# EAGLE library part ADC0831-N (library ADC)
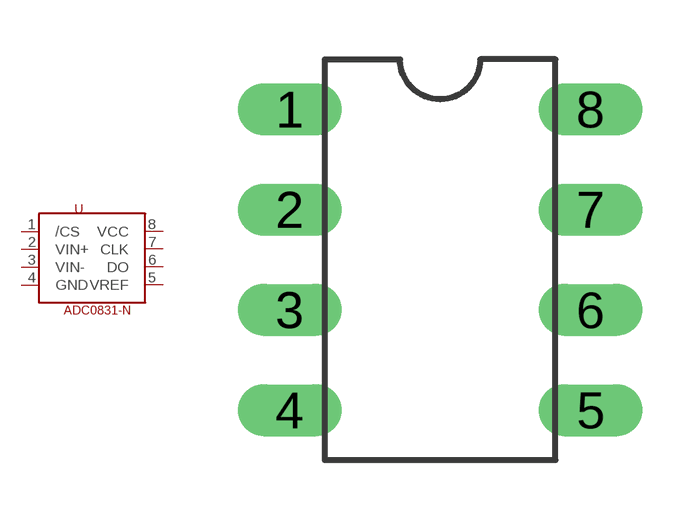
[diagram p0: symbol with the pads of DIL08; footprint DIL08]

Designator prefix -

## ADC0831-N  [DIL08]
1  /CS
2  VIN+
3  VIN-
4  GND
5  VREF
6  DO
7  CLK
8  VCC

## Footprint DIL08 (pad centres in mm)
drill 0.813 long: 1 -3.81,3.81; 2 -3.81,1.27; 3 -3.81,-1.27; 4 -3.81,-3.81; 5 3.81,-3.81; 6 3.81,-1.27; 7 3.81,1.27; 8 3.81,3.81